# Altium integrated library TI Power Management Power Over Ethernet.IntLib: 76 symbols (part 2 of 9)
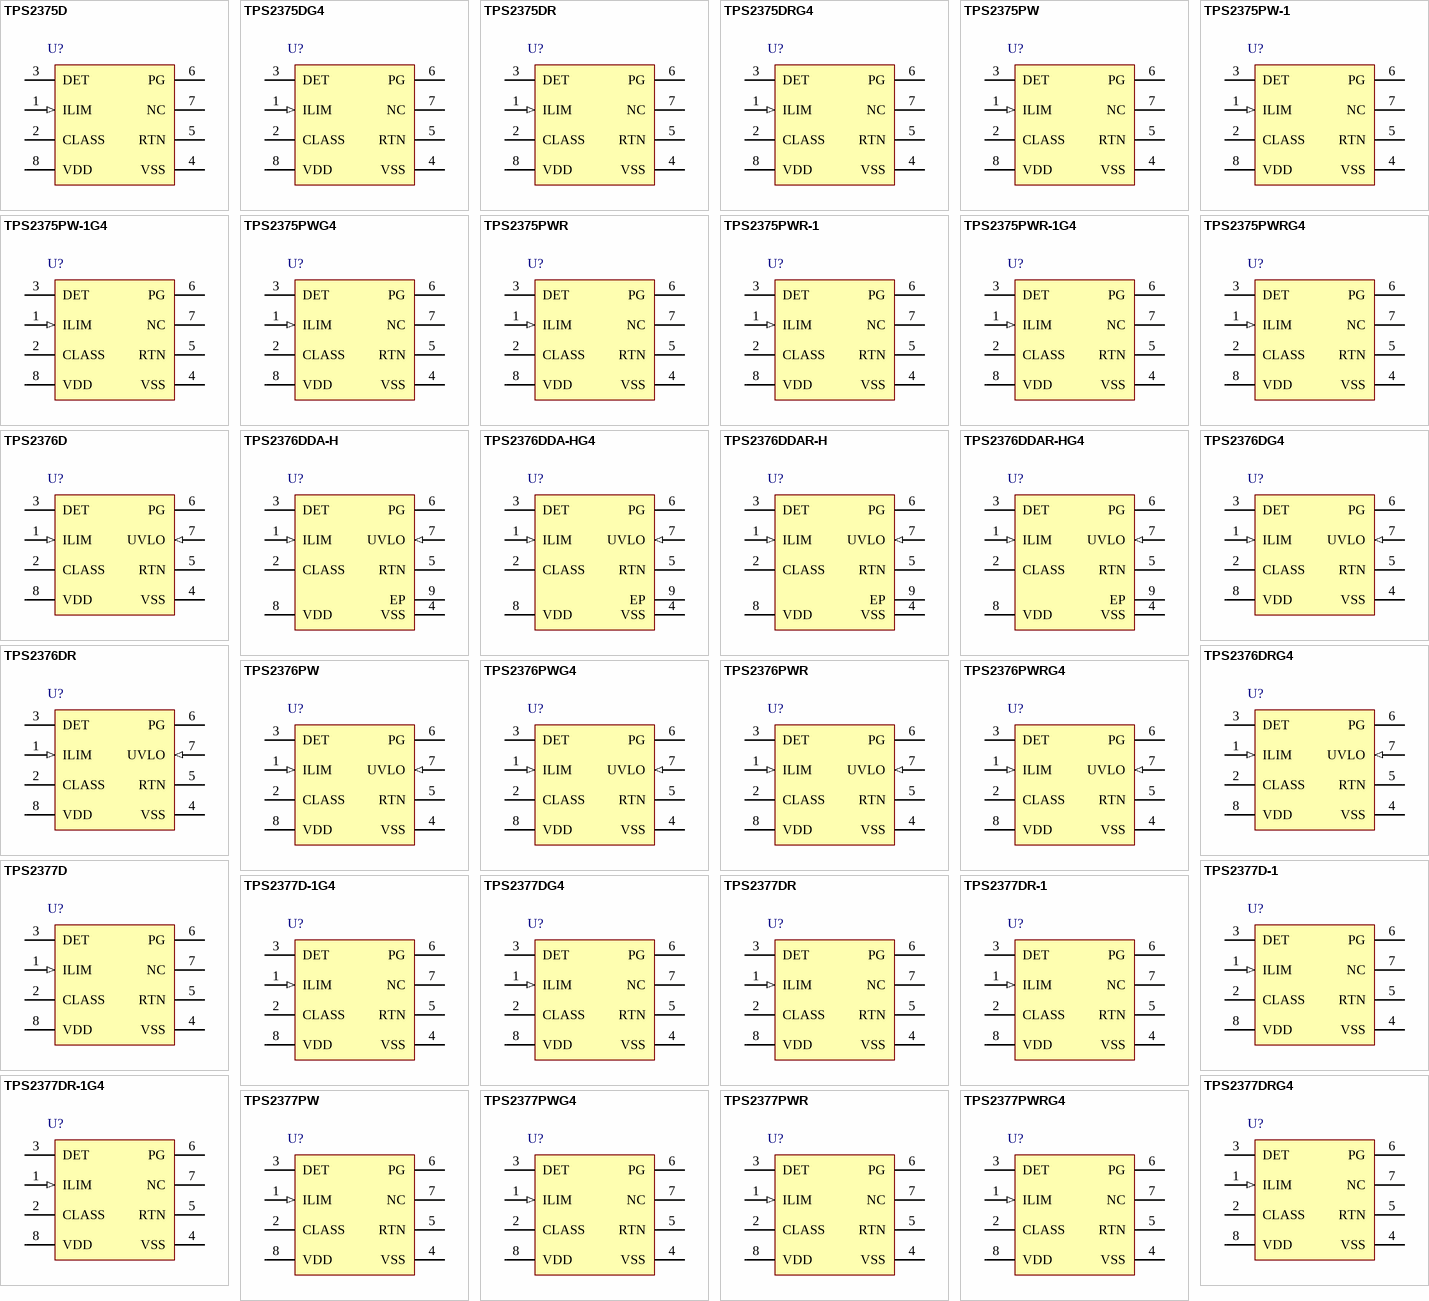
[diagram p4: symbols TPS2375D to TPS2377PWRG4]

## TPS2376PWG4
designator U?
IEEE 802.3af PoE Powered Device Controller, -40 to 85 degC, 8-pin SOP (PW8), Green (RoHS & no Sb/Br); Manufacturer: Texas Instruments; PartNumber: TPS2376PWG4; Auxiliary/Local Power Support: External Circuit; Fault Response: Latch; PD Power Level: 13W; PoE Current Limit(Min)(mA): 405; PoE I/F: TRUE; PoE Inrush Limit(Typ)(mA): Programmable; PoE Standards Supported: 802.3at type1; rDS(on) per FET(Typ)(mOhms): 580; UVLO: Adjustable; DatasheetVersion: SLVS525B; PackageVersion: 4040064-2/G; PackageReference: PW8; PackageDescription: 8-Pin Plastic Small Outline, Body 4.4 x 3 mm, Pitch 0.65 mm; Supplier 1: Digi-Key; Supplier Part Number 1: TPS2376PWG4-ND; Supplier 2: Mouser; Supplier Part Number 2: 595-TPS2376PWG4; Eco-Plan: Green (RoHS & no Sb/Br); SubFamily: Powered Device; Mounting Technology: Surface Mount; Code_JEDEC: MO-153; ComponentLink1Description: Manufacturer URL; ComponentLink1URL: http://www.ti.com/; ComponentLink2Description: Datasheet; ComponentLink2URL: http://www.ti.com/general/docs/lit/getliterature.tsp?genericPartNumber=TPS2376&fileType=pdf; ComponentLink3Description: Package Specification; ComponentLink3URL: http://www.ti.com/litv/pdf/mtss001d
footprint TI-PW8_N (SOP, 8-Leads, Body 4.4x3mm, Pitch 0.65mm, IPC Medium Density)
footprint TI-PW8_L (SOP, 8-Leads, Body 4.4x3mm, Pitch 0.65mm, IPC High Density)
footprint TI-PW8_M (SOP, 8-Leads, Body 4.4x3mm, Pitch 0.65mm, IPC Low Density)
pins: 1 ILIM (in) "Connect a resistor from ILIM to VSS to set the start-up inrush current limit.The equation for calculating the resistor is shown in the detailed pin description section for ILIM.", 2 CLASS "Connect a resistor from CLASS to VSS to set the classification of the  powered device (PD).", 3 DET "Connet a 24.9-kohm detection resistor from DET to VDD for a valid PD detection.", 4 VSS (power) "Return line on the source side of the TPS2375 from the PSE.", 5 RTN "Switched output side return line used as thr low-side reference for the TPS2375 load.", 6 PG (hiz) "Open-drain, power-good output; active high.", 7 UVLO (in) "Used only on the TPA2376.Connect a resister divider from VDD to VSS to implement the adjustable ULVO feature of the TPS2376.", 8 VDD (power) "Positive line from the rectified PSE provided input."

## TPS2376PWR
designator U?
IEEE 802.3af PoE Powered Device Controller, -40 to 85 degC, 8-pin SOP (PW8), Green (RoHS & no Sb/Br); Manufacturer: Texas Instruments; PartNumber: TPS2376PWR; Auxiliary/Local Power Support: External Circuit; Fault Response: Latch; PD Power Level: 13W; PoE Current Limit(Min)(mA): 405; PoE I/F: TRUE; PoE Inrush Limit(Typ)(mA): Programmable; PoE Standards Supported: 802.3at type1; rDS(on) per FET(Typ)(mOhms): 580; UVLO: Adjustable; DatasheetVersion: SLVS525B; PackageVersion: 4040064-2/G; PackageReference: PW8; PackageDescription: 8-Pin Plastic Small Outline, Body 4.4 x 3 mm, Pitch 0.65 mm; Supplier 1: Digi-Key; Supplier Part Number 1: TPS2376PWR-ND; Supplier 2: Mouser; Supplier Part Number 2: 595-TPS2376PWR; Eco-Plan: Green (RoHS & no Sb/Br); SubFamily: Powered Device; Mounting Technology: Surface Mount; Code_JEDEC: MO-153; ComponentLink1Description: Manufacturer URL; ComponentLink1URL: http://www.ti.com/; ComponentLink2Description: Datasheet; ComponentLink2URL: http://www.ti.com/general/docs/lit/getliterature.tsp?genericPartNumber=TPS2376&fileType=pdf; ComponentLink3Description: Package Specification; ComponentLink3URL: http://www.ti.com/litv/pdf/mtss001d
footprint TI-PW8_N (SOP, 8-Leads, Body 4.4x3mm, Pitch 0.65mm, IPC Medium Density)
footprint TI-PW8_L (SOP, 8-Leads, Body 4.4x3mm, Pitch 0.65mm, IPC High Density)
footprint TI-PW8_M (SOP, 8-Leads, Body 4.4x3mm, Pitch 0.65mm, IPC Low Density)
pins: 1 ILIM (in) "Connect a resistor from ILIM to VSS to set the start-up inrush current limit.The equation for calculating the resistor is shown in the detailed pin description section for ILIM.", 2 CLASS "Connect a resistor from CLASS to VSS to set the classification of the  powered device (PD).", 3 DET "Connet a 24.9-kohm detection resistor from DET to VDD for a valid PD detection.", 4 VSS (power) "Return line on the source side of the TPS2375 from the PSE.", 5 RTN "Switched output side return line used as thr low-side reference for the TPS2375 load.", 6 PG (hiz) "Open-drain, power-good output; active high.", 7 UVLO (in) "Used only on the TPA2376.Connect a resister divider from VDD to VSS to implement the adjustable ULVO feature of the TPS2376.", 8 VDD (power) "Positive line from the rectified PSE provided input."

## TPS2376PWRG4
designator U?
IEEE 802.3af PoE Powered Device Controller, -40 to 85 degC, 8-pin SOP (PW8), Green (RoHS & no Sb/Br); Manufacturer: Texas Instruments; PartNumber: TPS2376PWRG4; Auxiliary/Local Power Support: External Circuit; Fault Response: Latch; PD Power Level: 13W; PoE Current Limit(Min)(mA): 405; PoE I/F: TRUE; PoE Inrush Limit(Typ)(mA): Programmable; PoE Standards Supported: 802.3at type1; rDS(on) per FET(Typ)(mOhms): 580; UVLO: Adjustable; DatasheetVersion: SLVS525B; PackageVersion: 4040064-2/G; PackageReference: PW8; PackageDescription: 8-Pin Plastic Small Outline, Body 4.4 x 3 mm, Pitch 0.65 mm; Supplier 1: Digi-Key; Supplier Part Number 1: TPS2376PWRG4-ND; Supplier 2: Mouser; Supplier Part Number 2: 595-TPS2376PWRG4; Eco-Plan: Green (RoHS & no Sb/Br); SubFamily: Powered Device; Mounting Technology: Surface Mount; Code_JEDEC: MO-153; ComponentLink1Description: Manufacturer URL; ComponentLink1URL: http://www.ti.com/; ComponentLink2Description: Datasheet; ComponentLink2URL: http://www.ti.com/general/docs/lit/getliterature.tsp?genericPartNumber=TPS2376&fileType=pdf; ComponentLink3Description: Package Specification; ComponentLink3URL: http://www.ti.com/litv/pdf/mtss001d
footprint TI-PW8_N (SOP, 8-Leads, Body 4.4x3mm, Pitch 0.65mm, IPC Medium Density)
footprint TI-PW8_L (SOP, 8-Leads, Body 4.4x3mm, Pitch 0.65mm, IPC High Density)
footprint TI-PW8_M (SOP, 8-Leads, Body 4.4x3mm, Pitch 0.65mm, IPC Low Density)
pins: 1 ILIM (in) "Connect a resistor from ILIM to VSS to set the start-up inrush current limit.The equation for calculating the resistor is shown in the detailed pin description section for ILIM.", 2 CLASS "Connect a resistor from CLASS to VSS to set the classification of the  powered device (PD).", 3 DET "Connet a 24.9-kohm detection resistor from DET to VDD for a valid PD detection.", 4 VSS (power) "Return line on the source side of the TPS2375 from the PSE.", 5 RTN "Switched output side return line used as thr low-side reference for the TPS2375 load.", 6 PG (hiz) "Open-drain, power-good output; active high.", 7 UVLO (in) "Used only on the TPA2376.Connect a resister divider from VDD to VSS to implement the adjustable ULVO feature of the TPS2376.", 8 VDD (power) "Positive line from the rectified PSE provided input."

## TPS2377D
designator U?
IEEE 802.3af PoE Powered Device Controllers, -40 to 85 degC, 8-pin SOIC (D8), Green (RoHS & no Sb/Br); Manufacturer: Texas Instruments; PartNumber: TPS2377D; Auxiliary/Local Power Support: External Circuit; Fault Response: Latch; PD Power Level: 13W; PoE Current Limit(Min)(mA): 405; PoE I/F: TRUE; PoE Inrush Limit(Typ)(mA): Programmable; PoE Standards Supported: 802.3at type1; rDS(on) per FET(Typ)(mOhms): 580; UVLO: Unified; DatasheetVersion: SLVS525B; PackageVersion: 4040047-3/M; PackageReference: D8; PackageDescription: 8-Pin Plastic Small Outline, Body 4.9 x 3.9 mm, Pitch 1.27 mm; Supplier 1: Digi-Key; Supplier Part Number 1: 296-17065-ND; Supplier 2: Farnell; Supplier Part Number 2: 8456887; Supplier 3: Newark; Supplier Part Number 3: 38K8647; Supplier 4: Newark; Supplier Part Number 4: 10J9751; Supplier 5: Mouser; Supplier Part Number 5: 595-TPS2377D; Eco-Plan: Green (RoHS & no Sb/Br); SubFamily: Powered Device; Mounting Technology: Surface Mount; Code_JEDEC: MS-012; ComponentLink1Description: Manufacturer URL; ComponentLink1URL: http://www.ti.com/; ComponentLink2Description: Datasheet; ComponentLink2URL: http://www.ti.com/general/docs/lit/getliterature.tsp?genericPartNumber=TPS2377&fileType=pdf; ComponentLink3Description: Package Specification; ComponentLink3URL: http://www.ti.com/litv/pdf/msoi002j
footprint TI-D8_N (SOIC, 8-Leads, Body 4.9x3.9mm, Pitch 1.27mm, IPC Medium Density)
footprint TI-D8_L (SOIC, 8-Leads, Body 4.9x3.9mm, Pitch 1.27mm, IPC High Density)
footprint TI-D8_M (SOIC, 8-Leads, Body 4.9x3.9mm, Pitch 1.27mm, IPC Low Density)
pins: 1 ILIM (in) "Connect a resistor from ILIM to VSS to set the start-up inrush current limit. The equation for calculating the resistor is shown in the detailed pin description section for ILIM.", 2 CLASS "Connect a resistor from CLASS to VSS to set the classification of the  powered device (PD). The IEEE classification levels and corresponding resistor values are shown in Table 1.", 3 DET "Connect a 24.9-k ohm detection resistor from DET to VDD for a valid PD detection.", 4 VSS (power) "Return line on the source side of the TPS2375 from the PSE.", 5 RTN "Switched output side return line used as the low-side reference for the TPS2375 load.", 6 PG (hiz) "Open-drain, power-good output; active high.", 7 NC "No connection", 8 VDD (power) "Positive line from the rectified PSE provided input."

## TPS2377D-1
designator U?
IEEE 802.3af PoE Powered Device Controllers, -40 to 85 degC, 8-pin SOIC (D8), Green (RoHS & no Sb/Br); Manufacturer: Texas Instruments; PartNumber: TPS2377D-1; Auxiliary/Local Power Support: External Circuit; Fault Response: Auto Retry; PD Power Level: 13W; PoE Current Limit(Min)(mA): 405; PoE I/F: TRUE; PoE Inrush Limit(Typ)(mA): Programmable; PoE Standards Supported: 802.3at type1; rDS(on) per FET(Typ)(mOhms): 580; UVLO: Unified; DatasheetVersion: SLVS570A; PackageVersion: 4040047-3/M; PackageReference: D8; PackageDescription: 8-Pin Plastic Small Outline, Body 4.9 x 3.9 mm, Pitch 1.27 mm; Supplier 1: Digi-Key; Supplier Part Number 1: 296-17904-5-ND; Supplier 2: Mouser; Supplier Part Number 2: 595-TPS2377D-1; Eco-Plan: Green (RoHS & no Sb/Br); SubFamily: Powered Device; Mounting Technology: Surface Mount; Code_JEDEC: MS-012; ComponentLink1Description: Manufacturer URL; ComponentLink1URL: http://www.ti.com/; ComponentLink2Description: Datasheet; ComponentLink2URL: http://www.ti.com/general/docs/lit/getliterature.tsp?genericPartNumber=TPS2377-1&fileType=pdf; ComponentLink3Description: Package Specification; ComponentLink3URL: http://www.ti.com/litv/pdf/msoi002j
footprint TI-D8_N (SOIC, 8-Leads, Body 4.9x3.9mm, Pitch 1.27mm, IPC Medium Density)
footprint TI-D8_L (SOIC, 8-Leads, Body 4.9x3.9mm, Pitch 1.27mm, IPC High Density)
footprint TI-D8_M (SOIC, 8-Leads, Body 4.9x3.9mm, Pitch 1.27mm, IPC Low Density)
pins: 1 ILIM (in) "Connect a resistor from ILIM to VSS to set the start-up inrush current limit. The equation for calculating the resistor is shown in the detailed pin description section for ILIM.", 2 CLASS "Connect a resistor from CLASS to VSS to set the classification of the powered device (PD). The IEEE classification levels and corresponding resistor values are shown inTable 1.", 3 DET "Connect a 24.9-kohm detection resistor from DET to VDD for a valid PD detection.", 4 VSS (power) "Return line on the source side of the TPS2375-1 from the PSE.", 5 RTN "Switched output side return line used as the low-side reference for the TPS2375-1 load.", 6 PG (hiz) "Open-drain, power-good output; active high.", 7 NC "No connection", 8 VDD (power) "Positive line from the rectified PSE provided input."

## TPS2377D-1G4
designator U?
IEEE 802.3af PoE Powered Device Controllers, -40 to 85 degC, 8-pin SOIC (D8), Green (RoHS & no Sb/Br); Manufacturer: Texas Instruments; PartNumber: TPS2377D-1G4; Auxiliary/Local Power Support: External Circuit; Fault Response: Auto Retry; PD Power Level: 13W; PoE Current Limit(Min)(mA): 405; PoE I/F: TRUE; PoE Inrush Limit(Typ)(mA): Programmable; PoE Standards Supported: 802.3at type1; rDS(on) per FET(Typ)(mOhms): 580; UVLO: Unified; DatasheetVersion: SLVS570A; PackageVersion: 4040047-3/M; PackageReference: D8; PackageDescription: 8-Pin Plastic Small Outline, Body 4.9 x 3.9 mm, Pitch 1.27 mm; Supplier 1: Digi-Key; Supplier Part Number 1: TPS2377D-1G4-ND; Supplier 2: Mouser; Supplier Part Number 2: 595-TPS2377D-1G4; Eco-Plan: Green (RoHS & no Sb/Br); SubFamily: Powered Device; Mounting Technology: Surface Mount; Code_JEDEC: MS-012; ComponentLink1Description: Manufacturer URL; ComponentLink1URL: http://www.ti.com/; ComponentLink2Description: Datasheet; ComponentLink2URL: http://www.ti.com/general/docs/lit/getliterature.tsp?genericPartNumber=TPS2377-1&fileType=pdf; ComponentLink3Description: Package Specification; ComponentLink3URL: http://www.ti.com/litv/pdf/msoi002j
footprint TI-D8_N (SOIC, 8-Leads, Body 4.9x3.9mm, Pitch 1.27mm, IPC Medium Density)
footprint TI-D8_L (SOIC, 8-Leads, Body 4.9x3.9mm, Pitch 1.27mm, IPC High Density)
footprint TI-D8_M (SOIC, 8-Leads, Body 4.9x3.9mm, Pitch 1.27mm, IPC Low Density)
pins: 1 ILIM (in) "Connect a resistor from ILIM to VSS to set the start-up inrush current limit. The equation for calculating the resistor is shown in the detailed pin description section for ILIM.", 2 CLASS "Connect a resistor from CLASS to VSS to set the classification of the powered device (PD). The IEEE classification levels and corresponding resistor values are shown inTable 1.", 3 DET "Connect a 24.9-kohm detection resistor from DET to VDD for a valid PD detection.", 4 VSS (power) "Return line on the source side of the TPS2375-1 from the PSE.", 5 RTN "Switched output side return line used as the low-side reference for the TPS2375-1 load.", 6 PG (hiz) "Open-drain, power-good output; active high.", 7 NC "No connection", 8 VDD (power) "Positive line from the rectified PSE provided input."

## TPS2377DG4
designator U?
IEEE 802.3af PoE Powered Device Controllers, -40 to 85 degC, 8-pin SOIC (D8), Green (RoHS & no Sb/Br); Manufacturer: Texas Instruments; PartNumber: TPS2377DG4; Auxiliary/Local Power Support: External Circuit; Fault Response: Latch; PD Power Level: 13W; PoE Current Limit(Min)(mA): 405; PoE I/F: TRUE; PoE Inrush Limit(Typ)(mA): Programmable; PoE Standards Supported: 802.3at type1; rDS(on) per FET(Typ)(mOhms): 580; UVLO: Unified; DatasheetVersion: SLVS525B; PackageVersion: 4040047-3/M; PackageReference: D8; PackageDescription: 8-Pin Plastic Small Outline, Body 4.9 x 3.9 mm, Pitch 1.27 mm; Supplier 1: Digi-Key; Supplier Part Number 1: TPS2377DG4-ND; Supplier 2: Mouser; Supplier Part Number 2: 595-TPS2377DG4; Eco-Plan: Green (RoHS & no Sb/Br); SubFamily: Powered Device; Mounting Technology: Surface Mount; Code_JEDEC: MS-012; ComponentLink1Description: Manufacturer URL; ComponentLink1URL: http://www.ti.com/; ComponentLink2Description: Datasheet; ComponentLink2URL: http://www.ti.com/general/docs/lit/getliterature.tsp?genericPartNumber=TPS2377&fileType=pdf; ComponentLink3Description: Package Specification; ComponentLink3URL: http://www.ti.com/litv/pdf/msoi002j
footprint TI-D8_N (SOIC, 8-Leads, Body 4.9x3.9mm, Pitch 1.27mm, IPC Medium Density)
footprint TI-D8_L (SOIC, 8-Leads, Body 4.9x3.9mm, Pitch 1.27mm, IPC High Density)
footprint TI-D8_M (SOIC, 8-Leads, Body 4.9x3.9mm, Pitch 1.27mm, IPC Low Density)
pins: 1 ILIM (in) "Connect a resistor from ILIM to VSS to set the start-up inrush current limit. The equation for calculating the resistor is shown in the detailed pin description section for ILIM.", 2 CLASS "Connect a resistor from CLASS to VSS to set the classification of the  powered device (PD). The IEEE classification levels and corresponding resistor values are shown in Table 1.", 3 DET "Connect a 24.9-k ohm detection resistor from DET to VDD for a valid PD detection.", 4 VSS (power) "Return line on the source side of the TPS2375 from the PSE.", 5 RTN "Switched output side return line used as the low-side reference for the TPS2375 load.", 6 PG (hiz) "Open-drain, power-good output; active high.", 7 NC "No connection", 8 VDD (power) "Positive line from the rectified PSE provided input."

## TPS2377DR
designator U?
IEEE 802.3af PoE Powered Device Controllers, -40 to 85 degC, 8-pin SOIC (D8), Green (RoHS & no Sb/Br); Manufacturer: Texas Instruments; PartNumber: TPS2377DR; Auxiliary/Local Power Support: External Circuit; Fault Response: Latch; PD Power Level: 13W; PoE Current Limit(Min)(mA): 405; PoE I/F: TRUE; PoE Inrush Limit(Typ)(mA): Programmable; PoE Standards Supported: 802.3at type1; rDS(on) per FET(Typ)(mOhms): 580; UVLO: Unified; DatasheetVersion: SLVS525B; PackageVersion: 4040047-3/M; PackageReference: D8; PackageDescription: 8-Pin Plastic Small Outline, Body 4.9 x 3.9 mm, Pitch 1.27 mm; Supplier 1: Digi-Key; Supplier Part Number 1: TPS2377DR-ND; Supplier 2: Newark; Supplier Part Number 2: 21J9190; Supplier 3: Mouser; Supplier Part Number 3: 595-TPS2377DR; Eco-Plan: Green (RoHS & no Sb/Br); SubFamily: Powered Device; Mounting Technology: Surface Mount; Code_JEDEC: MS-012; ComponentLink1Description: Manufacturer URL; ComponentLink1URL: http://www.ti.com/; ComponentLink2Description: Datasheet; ComponentLink2URL: http://www.ti.com/general/docs/lit/getliterature.tsp?genericPartNumber=TPS2377&fileType=pdf; ComponentLink3Description: Package Specification; ComponentLink3URL: http://www.ti.com/litv/pdf/msoi002j
footprint TI-D8_N (SOIC, 8-Leads, Body 4.9x3.9mm, Pitch 1.27mm, IPC Medium Density)
footprint TI-D8_L (SOIC, 8-Leads, Body 4.9x3.9mm, Pitch 1.27mm, IPC High Density)
footprint TI-D8_M (SOIC, 8-Leads, Body 4.9x3.9mm, Pitch 1.27mm, IPC Low Density)
pins: 1 ILIM (in) "Connect a resistor from ILIM to VSS to set the start-up inrush current limit. The equation for calculating the resistor is shown in the detailed pin description section for ILIM.", 2 CLASS "Connect a resistor from CLASS to VSS to set the classification of the  powered device (PD). The IEEE classification levels and corresponding resistor values are shown in Table 1.", 3 DET "Connect a 24.9-k ohm detection resistor from DET to VDD for a valid PD detection.", 4 VSS (power) "Return line on the source side of the TPS2375 from the PSE.", 5 RTN "Switched output side return line used as the low-side reference for the TPS2375 load.", 6 PG (hiz) "Open-drain, power-good output; active high.", 7 NC "No connection", 8 VDD (power) "Positive line from the rectified PSE provided input."

## TPS2377DR-1
designator U?
IEEE 802.3af PoE Powered Device Controllers, -40 to 85 degC, 8-pin SOIC (D8), Green (RoHS & no Sb/Br); Manufacturer: Texas Instruments; PartNumber: TPS2377DR-1; Auxiliary/Local Power Support: External Circuit; Fault Response: Auto Retry; PD Power Level: 13W; PoE Current Limit(Min)(mA): 405; PoE I/F: TRUE; PoE Inrush Limit(Typ)(mA): Programmable; PoE Standards Supported: 802.3at type1; rDS(on) per FET(Typ)(mOhms): 580; UVLO: Unified; DatasheetVersion: SLVS570A; PackageVersion: 4040047-3/M; PackageReference: D8; PackageDescription: 8-Pin Plastic Small Outline, Body 4.9 x 3.9 mm, Pitch 1.27 mm; Supplier 1: Digi-Key; Supplier Part Number 1: TPS2377DR-1-ND; Supplier 2: Mouser; Supplier Part Number 2: 595-TPS2377DR-1; Eco-Plan: Green (RoHS & no Sb/Br); SubFamily: Powered Device; Mounting Technology: Surface Mount; Code_JEDEC: MS-012; ComponentLink1Description: Manufacturer URL; ComponentLink1URL: http://www.ti.com/; ComponentLink2Description: Datasheet; ComponentLink2URL: http://www.ti.com/general/docs/lit/getliterature.tsp?genericPartNumber=TPS2377-1&fileType=pdf; ComponentLink3Description: Package Specification; ComponentLink3URL: http://www.ti.com/litv/pdf/msoi002j
footprint TI-D8_N (SOIC, 8-Leads, Body 4.9x3.9mm, Pitch 1.27mm, IPC Medium Density)
footprint TI-D8_L (SOIC, 8-Leads, Body 4.9x3.9mm, Pitch 1.27mm, IPC High Density)
footprint TI-D8_M (SOIC, 8-Leads, Body 4.9x3.9mm, Pitch 1.27mm, IPC Low Density)
pins: 1 ILIM (in) "Connect a resistor from ILIM to VSS to set the start-up inrush current limit. The equation for calculating the resistor is shown in the detailed pin description section for ILIM.", 2 CLASS "Connect a resistor from CLASS to VSS to set the classification of the powered device (PD). The IEEE classification levels and corresponding resistor values are shown inTable 1.", 3 DET "Connect a 24.9-kohm detection resistor from DET to VDD for a valid PD detection.", 4 VSS (power) "Return line on the source side of the TPS2375-1 from the PSE.", 5 RTN "Switched output side return line used as the low-side reference for the TPS2375-1 load.", 6 PG (hiz) "Open-drain, power-good output; active high.", 7 NC "No connection", 8 VDD (power) "Positive line from the rectified PSE provided input."

## TPS2377DR-1G4
designator U?
IEEE 802.3af PoE Powered Device Controllers, -40 to 85 degC, 8-pin SOIC (D8), Green (RoHS & no Sb/Br); Manufacturer: Texas Instruments; PartNumber: TPS2377DR-1G4; Auxiliary/Local Power Support: External Circuit; Fault Response: Auto Retry; PD Power Level: 13W; PoE Current Limit(Min)(mA): 405; PoE I/F: TRUE; PoE Inrush Limit(Typ)(mA): Programmable; PoE Standards Supported: 802.3at type1; rDS(on) per FET(Typ)(mOhms): 580; UVLO: Unified; DatasheetVersion: SLVS570A; PackageVersion: 4040047-3/M; PackageReference: D8; PackageDescription: 8-Pin Plastic Small Outline, Body 4.9 x 3.9 mm, Pitch 1.27 mm; Supplier 1: Digi-Key; Supplier Part Number 1: TPS2377DR-1G4-ND; Supplier 2: Mouser; Supplier Part Number 2: 595-TPS2377DR-1G4; Eco-Plan: Green (RoHS & no Sb/Br); SubFamily: Powered Device; Mounting Technology: Surface Mount; Code_JEDEC: MS-012; ComponentLink1Description: Manufacturer URL; ComponentLink1URL: http://www.ti.com/; ComponentLink2Description: Datasheet; ComponentLink2URL: http://www.ti.com/general/docs/lit/getliterature.tsp?genericPartNumber=TPS2377-1&fileType=pdf; ComponentLink3Description: Package Specification; ComponentLink3URL: http://www.ti.com/litv/pdf/msoi002j
footprint TI-D8_N (SOIC, 8-Leads, Body 4.9x3.9mm, Pitch 1.27mm, IPC Medium Density)
footprint TI-D8_L (SOIC, 8-Leads, Body 4.9x3.9mm, Pitch 1.27mm, IPC High Density)
footprint TI-D8_M (SOIC, 8-Leads, Body 4.9x3.9mm, Pitch 1.27mm, IPC Low Density)
pins: 1 ILIM (in) "Connect a resistor from ILIM to VSS to set the start-up inrush current limit. The equation for calculating the resistor is shown in the detailed pin description section for ILIM.", 2 CLASS "Connect a resistor from CLASS to VSS to set the classification of the powered device (PD). The IEEE classification levels and corresponding resistor values are shown inTable 1.", 3 DET "Connect a 24.9-kohm detection resistor from DET to VDD for a valid PD detection.", 4 VSS (power) "Return line on the source side of the TPS2375-1 from the PSE.", 5 RTN "Switched output side return line used as the low-side reference for the TPS2375-1 load.", 6 PG (hiz) "Open-drain, power-good output; active high.", 7 NC "No connection", 8 VDD (power) "Positive line from the rectified PSE provided input."

## TPS2377DRG4
designator U?
IEEE 802.3af PoE Powered Device Controllers, -40 to 85 degC, 8-pin SOIC (D8), Green (RoHS & no Sb/Br); Manufacturer: Texas Instruments; PartNumber: TPS2377DRG4; Auxiliary/Local Power Support: External Circuit; Fault Response: Latch; PD Power Level: 13W; PoE Current Limit(Min)(mA): 405; PoE I/F: TRUE; PoE Inrush Limit(Typ)(mA): Programmable; PoE Standards Supported: 802.3at type1; rDS(on) per FET(Typ)(mOhms): 580; UVLO: Unified; DatasheetVersion: SLVS525B; PackageVersion: 4040047-3/M; PackageReference: D8; PackageDescription: 8-Pin Plastic Small Outline, Body 4.9 x 3.9 mm, Pitch 1.27 mm; Supplier 1: Digi-Key; Supplier Part Number 1: TPS2377DRG4-ND; Supplier 2: Mouser; Supplier Part Number 2: 595-TPS2377DRG4; Eco-Plan: Green (RoHS & no Sb/Br); SubFamily: Powered Device; Mounting Technology: Surface Mount; Code_JEDEC: MS-012; ComponentLink1Description: Manufacturer URL; ComponentLink1URL: http://www.ti.com/; ComponentLink2Description: Datasheet; ComponentLink2URL: http://www.ti.com/general/docs/lit/getliterature.tsp?genericPartNumber=TPS2377&fileType=pdf; ComponentLink3Description: Package Specification; ComponentLink3URL: http://www.ti.com/litv/pdf/msoi002j
footprint TI-D8_N (SOIC, 8-Leads, Body 4.9x3.9mm, Pitch 1.27mm, IPC Medium Density)
footprint TI-D8_L (SOIC, 8-Leads, Body 4.9x3.9mm, Pitch 1.27mm, IPC High Density)
footprint TI-D8_M (SOIC, 8-Leads, Body 4.9x3.9mm, Pitch 1.27mm, IPC Low Density)
pins: 1 ILIM (in) "Connect a resistor from ILIM to VSS to set the start-up inrush current limit. The equation for calculating the resistor is shown in the detailed pin description section for ILIM.", 2 CLASS "Connect a resistor from CLASS to VSS to set the classification of the  powered device (PD). The IEEE classification levels and corresponding resistor values are shown in Table 1.", 3 DET "Connect a 24.9-k ohm detection resistor from DET to VDD for a valid PD detection.", 4 VSS (power) "Return line on the source side of the TPS2375 from the PSE.", 5 RTN "Switched output side return line used as the low-side reference for the TPS2375 load.", 6 PG (hiz) "Open-drain, power-good output; active high.", 7 NC "No connection", 8 VDD (power) "Positive line from the rectified PSE provided input."

## TPS2377PW
designator U?
IEEE 802.3af PoE Powered Device Controllers, -40 to 85 degC, 8-pin TSSOP (PW8), Green (RoHS & no Sb/Br); Manufacturer: Texas Instruments; PartNumber: TPS2377PW; Auxiliary/Local Power Support: External Circuit; Fault Response: Latch; PD Power Level: 13W; PoE Current Limit(Min)(mA): 405; PoE I/F: TRUE; PoE Inrush Limit(Typ)(mA): Programmable; PoE Standards Supported: 802.3at type1; rDS(on) per FET(Typ)(mOhms): 580; UVLO: Unified; DatasheetVersion: SLVS525B; PackageVersion: 4040064-2/G; PackageReference: PW8; PackageDescription: 8-Pin Plastic Small Outline, Body 4.4 x 3 mm, Pitch 0.65 mm; Supplier 1: Digi-Key; Supplier Part Number 1: 296-17066-ND; Supplier 2: Mouser; Supplier Part Number 2: 595-TPS2377PW; Eco-Plan: Green (RoHS & no Sb/Br); SubFamily: Powered Device; Mounting Technology: Surface Mount; Code_JEDEC: MO-153; ComponentLink1Description: Manufacturer URL; ComponentLink1URL: http://www.ti.com/; ComponentLink2Description: Datasheet; ComponentLink2URL: http://www.ti.com/general/docs/lit/getliterature.tsp?genericPartNumber=TPS2377&fileType=pdf; ComponentLink3Description: Package Specification; ComponentLink3URL: http://www.ti.com/litv/pdf/mtss001d
footprint TI-PW8_N (SOP, 8-Leads, Body 4.4x3mm, Pitch 0.65mm, IPC Medium Density)
footprint TI-PW8_L (SOP, 8-Leads, Body 4.4x3mm, Pitch 0.65mm, IPC High Density)
footprint TI-PW8_M (SOP, 8-Leads, Body 4.4x3mm, Pitch 0.65mm, IPC Low Density)
pins: 1 ILIM (in) "Connect a resistor from ILIM to VSS to set the start-up inrush current limit. The equation for calculating the resistor is shown in the detailed pin description section for ILIM.", 2 CLASS "Connect a resistor from CLASS to VSS to set the classification of the powered device (PD).", 3 DET "Connect a 24.9-k ohm detection resistor from DET to VDD for a valid PD detection.", 4 VSS (power) "Return line on the source side of the TPS2375 from the PSE.", 5 RTN "Switched output side return line used as the low-side reference for the TPS2375 load.", 6 PG (hiz) "Open-drain, power-good output; active high.", 7 NC "No connection", 8 VDD (power) "Positive line from the rectified PSE provided input."

## TPS2377PWG4
designator U?
IEEE 802.3af PoE Powered Device Controllers, -40 to 85 degC, 8-pin TSSOP (PW8), Green (RoHS & no Sb/Br); Manufacturer: Texas Instruments; PartNumber: TPS2377PWG4; Auxiliary/Local Power Support: External Circuit; Fault Response: Latch; PD Power Level: 13W; PoE Current Limit(Min)(mA): 405; PoE I/F: TRUE; PoE Inrush Limit(Typ)(mA): Programmable; PoE Standards Supported: 802.3at type1; rDS(on) per FET(Typ)(mOhms): 580; UVLO: Unified; DatasheetVersion: SLVS525B; PackageVersion: 4040064-2/G; PackageReference: PW8; PackageDescription: 8-Pin Plastic Small Outline, Body 4.4 x 3 mm, Pitch 0.65 mm; Supplier 1: Digi-Key; Supplier Part Number 1: TPS2377PWG4-ND; Supplier 2: Mouser; Supplier Part Number 2: 595-TPS2377PWG4; Eco-Plan: Green (RoHS & no Sb/Br); SubFamily: Powered Device; Mounting Technology: Surface Mount; Code_JEDEC: MO-153; ComponentLink1Description: Manufacturer URL; ComponentLink1URL: http://www.ti.com/; ComponentLink2Description: Datasheet; ComponentLink2URL: http://www.ti.com/general/docs/lit/getliterature.tsp?genericPartNumber=TPS2377&fileType=pdf; ComponentLink3Description: Package Specification; ComponentLink3URL: http://www.ti.com/litv/pdf/mtss001d
footprint TI-PW8_N (SOP, 8-Leads, Body 4.4x3mm, Pitch 0.65mm, IPC Medium Density)
footprint TI-PW8_L (SOP, 8-Leads, Body 4.4x3mm, Pitch 0.65mm, IPC High Density)
footprint TI-PW8_M (SOP, 8-Leads, Body 4.4x3mm, Pitch 0.65mm, IPC Low Density)
pins: 1 ILIM (in) "Connect a resistor from ILIM to VSS to set the start-up inrush current limit. The equation for calculating the resistor is shown in the detailed pin description section for ILIM.", 2 CLASS "Connect a resistor from CLASS to VSS to set the classification of the powered device (PD).", 3 DET "Connect a 24.9-k ohm detection resistor from DET to VDD for a valid PD detection.", 4 VSS (power) "Return line on the source side of the TPS2375 from the PSE.", 5 RTN "Switched output side return line used as the low-side reference for the TPS2375 load.", 6 PG (hiz) "Open-drain, power-good output; active high.", 7 NC "No connection", 8 VDD (power) "Positive line from the rectified PSE provided input."

## TPS2377PWR
designator U?
IEEE 802.3af PoE Powered Device Controllers, -40 to 85 degC, 8-pin TSSOP (PW8), Green (RoHS & no Sb/Br); Manufacturer: Texas Instruments; PartNumber: TPS2377PWR; Auxiliary/Local Power Support: External Circuit; Fault Response: Latch; PD Power Level: 13W; PoE Current Limit(Min)(mA): 405; PoE I/F: TRUE; PoE Inrush Limit(Typ)(mA): Programmable; PoE Standards Supported: 802.3at type1; rDS(on) per FET(Typ)(mOhms): 580; UVLO: Unified; DatasheetVersion: SLVS525B; PackageVersion: 4040064-2/G; PackageReference: PW8; PackageDescription: 8-Pin Plastic Small Outline, Body 4.4 x 3 mm, Pitch 0.65 mm; Supplier 1: Digi-Key; Supplier Part Number 1: TPS2377PWR-ND; Supplier 2: Mouser; Supplier Part Number 2: 595-TPS2377PWR; Eco-Plan: Green (RoHS & no Sb/Br); SubFamily: Powered Device; Mounting Technology: Surface Mount; Code_JEDEC: MO-153; ComponentLink1Description: Manufacturer URL; ComponentLink1URL: http://www.ti.com/; ComponentLink2Description: Datasheet; ComponentLink2URL: http://www.ti.com/general/docs/lit/getliterature.tsp?genericPartNumber=TPS2377&fileType=pdf; ComponentLink3Description: Package Specification; ComponentLink3URL: http://www.ti.com/litv/pdf/mtss001d
footprint TI-PW8_N (SOP, 8-Leads, Body 4.4x3mm, Pitch 0.65mm, IPC Medium Density)
footprint TI-PW8_L (SOP, 8-Leads, Body 4.4x3mm, Pitch 0.65mm, IPC High Density)
footprint TI-PW8_M (SOP, 8-Leads, Body 4.4x3mm, Pitch 0.65mm, IPC Low Density)
pins: 1 ILIM (in) "Connect a resistor from ILIM to VSS to set the start-up inrush current limit. The equation for calculating the resistor is shown in the detailed pin description section for ILIM.", 2 CLASS "Connect a resistor from CLASS to VSS to set the classification of the powered device (PD).", 3 DET "Connect a 24.9-k ohm detection resistor from DET to VDD for a valid PD detection.", 4 VSS (power) "Return line on the source side of the TPS2375 from the PSE.", 5 RTN "Switched output side return line used as the low-side reference for the TPS2375 load.", 6 PG (hiz) "Open-drain, power-good output; active high.", 7 NC "No connection", 8 VDD (power) "Positive line from the rectified PSE provided input."

## TPS2377PWRG4
designator U?
IEEE 802.3af PoE Powered Device Controllers, -40 to 85 degC, 8-pin TSSOP (PW8), Green (RoHS & no Sb/Br); Manufacturer: Texas Instruments; PartNumber: TPS2377PWRG4; Auxiliary/Local Power Support: External Circuit; Fault Response: Latch; PD Power Level: 13W; PoE Current Limit(Min)(mA): 405; PoE I/F: TRUE; PoE Inrush Limit(Typ)(mA): Programmable; PoE Standards Supported: 802.3at type1; rDS(on) per FET(Typ)(mOhms): 580; UVLO: Unified; DatasheetVersion: SLVS525B; PackageVersion: 4040064-2/G; PackageReference: PW8; PackageDescription: 8-Pin Plastic Small Outline, Body 4.4 x 3 mm, Pitch 0.65 mm; Supplier 1: Digi-Key; Supplier Part Number 1: TPS2377PWRG4-ND; Supplier 2: Mouser; Supplier Part Number 2: 595-TPS2377PWRG4; Eco-Plan: Green (RoHS & no Sb/Br); SubFamily: Powered Device; Mounting Technology: Surface Mount; Code_JEDEC: MO-153; ComponentLink1Description: Manufacturer URL; ComponentLink1URL: http://www.ti.com/; ComponentLink2Description: Datasheet; ComponentLink2URL: http://www.ti.com/general/docs/lit/getliterature.tsp?genericPartNumber=TPS2377&fileType=pdf; ComponentLink3Description: Package Specification; ComponentLink3URL: http://www.ti.com/litv/pdf/mtss001d
footprint TI-PW8_N (SOP, 8-Leads, Body 4.4x3mm, Pitch 0.65mm, IPC Medium Density)
footprint TI-PW8_L (SOP, 8-Leads, Body 4.4x3mm, Pitch 0.65mm, IPC High Density)
footprint TI-PW8_M (SOP, 8-Leads, Body 4.4x3mm, Pitch 0.65mm, IPC Low Density)
pins: 1 ILIM (in) "Connect a resistor from ILIM to VSS to set the start-up inrush current limit. The equation for calculating the resistor is shown in the detailed pin description section for ILIM.", 2 CLASS "Connect a resistor from CLASS to VSS to set the classification of the powered device (PD).", 3 DET "Connect a 24.9-k ohm detection resistor from DET to VDD for a valid PD detection.", 4 VSS (power) "Return line on the source side of the TPS2375 from the PSE.", 5 RTN "Switched output side return line used as the low-side reference for the TPS2375 load.", 6 PG (hiz) "Open-drain, power-good output; active high.", 7 NC "No connection", 8 VDD (power) "Positive line from the rectified PSE provided input."

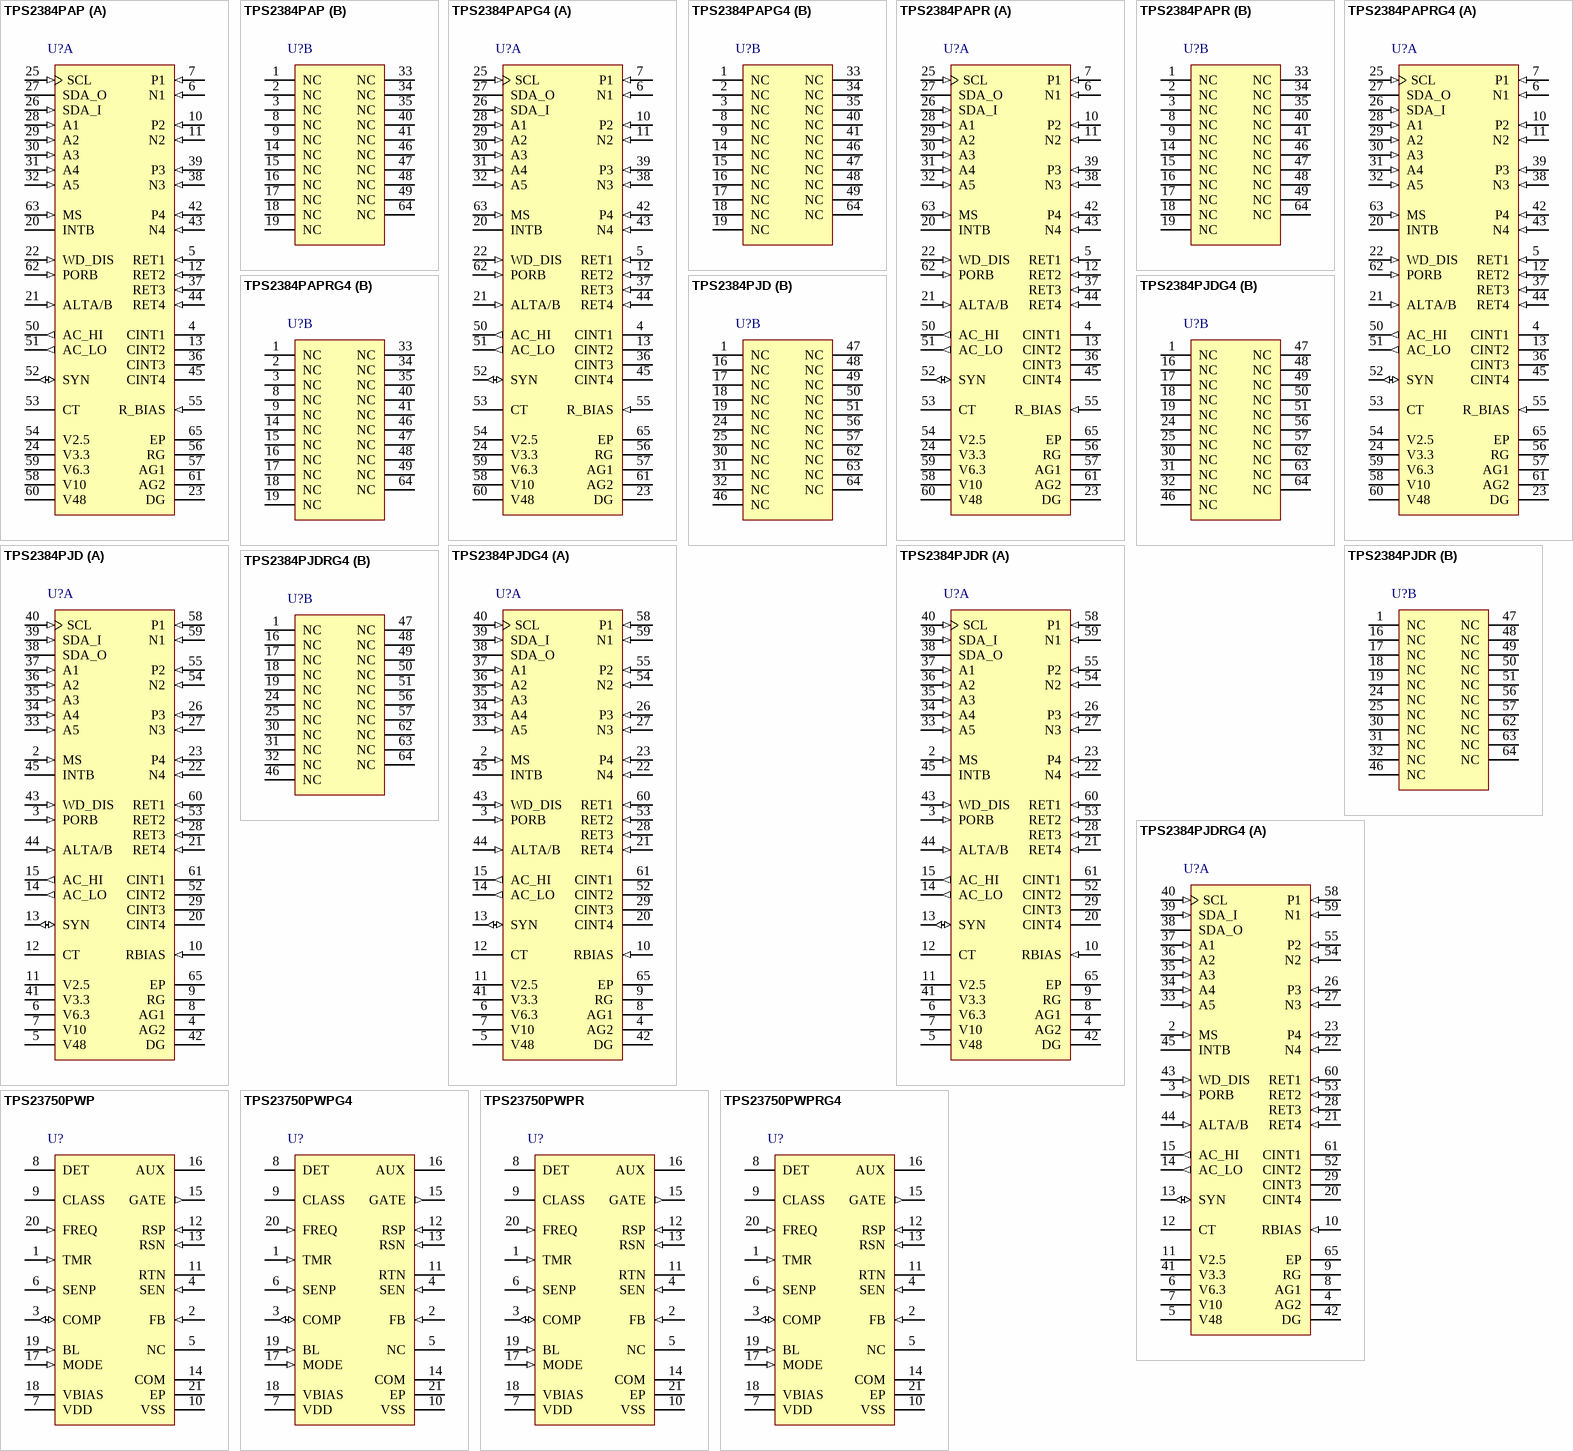
[diagram p1: symbols TPS2384PAP to TPS23750PWPRG4]

## TPS2384PAP
designator U?
Quad Ethernet Power Sourcing Equipment Power Manager, -40 to 125 degC, 64-pin QFP (PAP64), Green (RoHS & no Sb/Br); Manufacturer: Texas Instruments; PartNumber: TPS2384PAP; Integrated FET: TRUE; No. of Outputs: 4; DatasheetVersion: SLUS634D; PackageVersion: 4147702/C; PackageReference: PAP64-5900X5900TP; PackageDescription: 48-Pin PowerPad™ Plastic Quad FlatPack, Body 10 x 10 mm, Pitch 0.5 mm; Supplier 1: Digi-Key; Supplier Part Number 1: 296-17831-ND; Supplier 2: Newark; Supplier Part Number 2: 24K5861; Supplier 3: Mouser; Supplier Part Number 3: 595-TPS2384PAP; Eco-Plan: Green (RoHS & no Sb/Br); SubFamily: Power Sourcing Equipment; Mounting Technology: Surface Mount; Code_JEDEC: MS-026; ComponentLink1Description: Manufacturer URL; ComponentLink1URL: http://www.ti.com/; ComponentLink2Description: Datasheet; ComponentLink2URL: http://www.ti.com/general/docs/lit/getliterature.tsp?genericPartNumber=TPS2384&fileType=pdf; ComponentLink3Description: Package Specification; ComponentLink3URL: http://www.ti.com/lit/ml/mpqf071b/mpqf071b.pdf
footprint TI-PAP64-5900X5900TP_N (QFP, 64-Leads, Body 10x10mm, Pitch 0.5mm, Thermal Pad 5.9x5.9mm, IPC Medium Density)
footprint TI-PAP64-5900X5900TP_L (QFP, 64-Leads, Body 10x10mm, Pitch 0.5mm, Thermal Pad 5.9x5.9mm, IPC High Density)
footprint TI-PAP64-5900X5900TP_M (QFP, 64-Leads, Body 10x10mm, Pitch 0.5mm, Thermal Pad 5.9x5.9mm, IPC Low Density)
part A pins: 4 CINT1 "Integration capacitor This capacitor is used for the ramp A/D converter signal integration. Connect A 0.027- µF capacitor from this pin to RG. To minimize errors use a polycarbonate, poly-polypropylene, polystyrene or teflon (See Datasheet)", 5 RET1 (in) "48 V return pin.", 6 N1 (in) "Port negative. 48-V load return pin. The low side of the load is switched and protected by internal circuitry that limits the current.", 7 P1 (in) "Port Positive. 48-V load sense pin. Terminal voltage is monitored and controlled differentially with respect to each Port N pin. Optionally, if the application warrants, this high-side path can be protected with the use of a (See Datasheet)", 10 P2 (in) "Port Positive. 48-V load sense pin. Terminal voltage is monitored and controlled differentially with respect to each Port N pin. Optionally, if the application warrants, this high-side path can be protected with the use of a (See Datasheet)", 11 N2 (in) "Port negative. 48-V load return pin. The low side of the load is switched and protected by internal circuitry that limits the current.", 12 RET2 (in) "48 V return pin.", 13 CINT2 "Integration capacitor This capacitor is used for the ramp A/D converter signal integration. Connect A 0.027- µF capacitor from this pin to RG. To minimize errors use a polycarbonate, poly-polypropylene, polystyrene or teflon (See Datasheet)", 20 INTB (oc) "This is an open-drain output that goes low if a fault condition occurs on any of the 4 ports.", 21 ALTA/B (in) "When this input is set to logic low there is no back-off time after a discovery failure. When this pin set to a logic high there is a back-off time (approximately 2 seconds) before initiating another discovery cycle. This (See Datasheet)", 22 WD_DIS (in) "The WD_DIS pin disables the watchdog timer function when connected to 3.3 V. The pin has internal 50-k ohm resistor to digital ground. The watchdog timer monitors the I2C clock pin (SCL) and the internal oscillator activity (See Datasheet)", 23 DG (power) "Digital ground. This pin connects to the internal logic ground bus. It should be externally tied to the common copper 48-V return plane.", 24 V3.3 (power) "3.3-V logic supply. The 3.3-V supply is generated internally and connects to the internal logic power bus. A 0.1-奠F de-coupling capacitor should terminate as close to this node and the DG pin as possible. This output can be (See Datasheet)", 25 SCL (in) "Serial clock input pin for the I2C interface.", 26 SDA_I (in) "Serial data input pin for the I2C interface. When tied to the SDA_O pin, this connection becomes the standard bi-directional serial data line (SDA)", 27 SDA_O (oc) "Serial data open drain output for the I2C interface. When tied to the SDA_I pin, this connection becomes the standard bi-directional serial data line (SDA). This is a open drain output that can directly drive opto-coupler.", 28 A1 (in) "Address 1 through 5 These are the I2C address select inputs. Select the appropriate binary address on these pins by connecting to chip ground for a logic low or tying to the V3.3 pin for a logic high. Each address line has (See Datasheet)", 29 A2 (in) "Address 1 through 5 These are the I2C address select inputs. Select the appropriate binary address on these pins by connecting to chip ground for a logic low or tying to the V3.3 pin for a logic high. Each address line has (See Datasheet)", 30 A3 (in) "Address 1 through 5 These are the I2C address select inputs. Select the appropriate binary address on these pins by connecting to chip ground for a logic low or tying to the V3.3 pin for a logic high. Each address line has (See Datasheet)", 31 A4 (in) "Address 1 through 5 These are the I2C address select inputs. Select the appropriate binary address on these pins by connecting to chip ground for a logic low or tying to the V3.3 pin for a logic high. Each address line has (See Datasheet)", 32 A5 (in) "Address 1 through 5 These are the I2C address select inputs. Select the appropriate binary address on these pins by connecting to chip ground for a logic low or tying to the V3.3 pin for a logic high. Each address line has (See Datasheet)", 36 CINT3 "Integration capacitor This capacitor is used for the ramp A/D converter signal integration. Connect A 0.027- µF capacitor from this pin to RG. To minimize errors use a polycarbonate, poly-polypropylene, polystyrene or teflon (See Datasheet)", 37 RET3 (in) "48 V return pin.", 38 N3 (in) "Port negative. 48-V load return pin. The low side of the load is switched and protected by internal circuitry that limits the current.", 39 P3 (in) "Port Positive. 48-V load sense pin. Terminal voltage is monitored and controlled differentially with respect to each Port N pin. Optionally, if the application warrants, this high-side path can be protected with the use of a (See Datasheet)", 42 P4 (in) "Port Positive. 48-V load sense pin. Terminal voltage is monitored and controlled differentially with respect to each Port N pin. Optionally, if the application warrants, this high-side path can be protected with the use of a (See Datasheet)", 43 N4 (in) "Port negative. 48-V load return pin. The low side of the load is switched and protected by internal circuitry that limits the current.", 44 RET4 (in) "48 V return pin.", 45 CINT4 "Integration capacitor This capacitor is used for the ramp A/D converter signal integration. Connect A 0.027- µF capacitor from this pin to RG. To minimize errors use a polycarbonate, poly-polypropylene, polystyrene or teflon (See Datasheet)", 50 AC_HI (out) "Totem-pole output pin for AC Disconnect excitation.", 51 AC_LO (out) "Totem-pole output pin for AC Disconnect excitation.", 52 SYN (io) "This is a dual purpose pin. When the CT pin is connected to a timing capacitor this output pin is a 0 V to 3.3V pulse of the internal clock which can be used to drive other TPS2384 SYN pins for elimination of a timing (See Datasheet)", 53 CT "This is a dual-purpose pin. When tied to an external capacitor this pin sets the internal clock. When the CT pin is grounded the SYN pin turns from a output to an input (see SYN pin description). The timing capacitor and the (See Datasheet)", 54 V2.5 (power) "2.5-V reference supply. The V2.5 is generated internally and connects to the internal reference power bus. This pin should not be tied to any external supplies. A 0.1-µF de-coupling capacitor should terminate as close to (See Datasheet)", 55 R_BIAS (in) "Bias set resistor. This resistor sets all precision bias currents within the chip. This pin will regulate to 1.25V (V2.5/2) when a resistor is connected between RBIAS and RG. This voltage and RBIAS generate a current which (See Datasheet)", 56 RG (power) "Reference ground. This is a precision sense of the external ground plane. The integration capacitor (CINT) and the biasing resistor (RBIAS pin) should be tied to this ground. This ground should also be used to form a printed (See Datasheet)", 57 AG1 (power) "Analog ground 1. This is the analog ground of the V6.3, V10 and V48 power systems. It should be externally tied to the common copper 48-V return plane. This pin should carry the low side of three de-coupling capacitors tied (See Datasheet)", 58 V10 (power) "10-V analog supply. The 10-V reference is generated internally and connects to the main internal analog power bus. A 0.1-µF de-coupling capacitor should terminate as close to this node and the AG1 pin as possible. Do not use (See Datasheet)", 59 V6.3 (power) "6.3-V analog supply. A 0.1-µF de-coupling capacitor should terminate as close to this pin and the AG1 pin as possible. Do not use for an external supply.", 60 V48 (power) "48-V input to the device. This supply can have a range of 44 to 57 V. This pin should be decoupled with a 0.1-µF capacitor from V48 to AG1 placed as close to the device as possible.", 61 AG2 (power) "Analog ground 2. This is the analog ground which ties to the substrate and ESD structures of the device. It should be externally tied to the common copper 48-V return plane. AG1 and AG2 must be tied together directly for the (See Datasheet)", 62 PORB (in) "This pin can be used to override the internal POR. When held low, the I2C interface, all the state machines, and registers are held in reset. When all internal and external supplies are within specification, and this pin is (See Datasheet)", 63 MS (in) "The MS pin selects either the auto mode (MS low) or the power management mode, PMM, (MS high). This pin can be held low for controller-less standalone applications. When MS is low and the POR timing cycle is complete the (See Datasheet)", 65 EP
part B pins: 1 NC "No internal connection", 2 NC "No internal connection", 3 NC "No internal connection", 8 NC "No internal connection", 9 NC "No internal connection", 14 NC "No internal connection", 15 NC "No internal connection", 16 NC "No internal connection", 17 NC "No internal connection", 18 NC "No internal connection", 19 NC "No internal connection", 33 NC "No internal connection", 34 NC "No internal connection", 35 NC "No internal connection", 40 NC "No internal connection", 41 NC "No internal connection", 46 NC "No internal connection", 47 NC "No internal connection", 48 NC "No internal connection", 49 NC "No internal connection", 64 NC "No internal connection"